# Altium schematic symbol library S33305T-14.7456-X-R.SchLib: 1 symbol
Pins are listed as number, name and electrical type; pins without a type are passive.

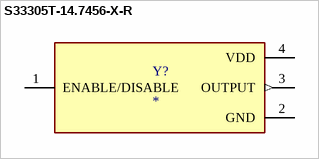
[diagram p0: symbol S33305T-14.7456-X-R]

## S33305T-14.7456-X-R
designator Y?
MP: S33305T-14.7456-X-R; Package: None; Price: None; Value: *; Availability: Unavailable
footprint OSC_S33305T-14.7456-X-R
pins: 1 ENABLE/DISABLE, 2 GND (power), 3 OUTPUT (out), 4 VDD (power)